# Altium footprint library Soil_Moisture_Sensor.PcbLib: 20 footprints (part 2 of 2)
Each footprint in its own frame and in the unit in brackets; x right, y up, seen from the top. Pads: shape width x height; smd on the part's side, far side on the other; paste and mask are expansions set on the pad; w line width, h text height; cw(c..) or ccw(c..) is an arc to the next point about the centre after c.
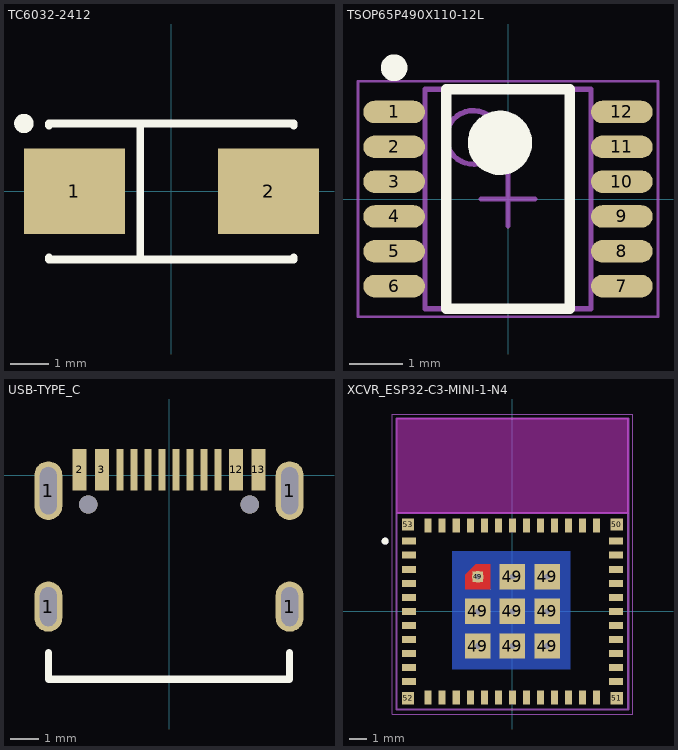
[diagram p1: the footprints below, top view; thin cyan lines are the x and y axes]

## TC6032-2412 [mm] "Capacitor, SM Tantalum; Body 6.0 x 3.2 mm (LxW typ)"
height 3.4
pads (2):
  rect 2.6x2.2 smd: 1(-2.5,0) 2(2.5,0)
Top Overlay:
  circle w0.25: c-3.8,1.75 r0.125
  lines w0.2: -3.15,-1.7 -3.15,-1.75 3.15,-1.75 3.15,-1.7 ; -3.15,1.7 -3.15,1.75 3.15,1.75 3.15,1.7 ; -0.8,-1.75 -0.8,1.75
3D body: height 3, standoff 0, extent -3.048,-1.651 3.175,1.651

## TSOP65P490X110-12L [mm] "TSOP, 12-Leads, Body 4.04x3.00mm, Pitch 0.65mm, IPC High Density"
height 1.1
pads (12):
  oval 1.15x0.42 smd: 1(-2.125,1.625) 2(-2.125,0.975) 3(-2.125,0.325) 4(-2.125,-0.325) 5(-2.125,-0.975) 6(-2.125,-1.625) 7(2.125,-1.625) 8(2.125,-0.975) 9(2.125,-0.325) 10(2.125,0.325) 11(2.125,0.975) 12(2.125,1.625)
Top Overlay:
  circle w0.6: c-0.15,1.05 r0.3
  circle w0.25: c-2.125,2.45 r0.125
  lines w0.2: -1.15,-2.05 1.15,-2.05 1.15,2.05 -1.15,2.05 -1.15,-2.05
Mechanical 13:
  circle w0.1: c-0.65,1.15 r0.5
  lines w0.1: -1.55,-2.05 1.55,-2.05 1.55,2.05 -1.55,2.05 -1.55,-2.05
Mechanical 15:
  lines w0.05: -2.8,-2.2 2.8,-2.2 2.8,2.2 -2.8,2.2 -2.8,-2.2
  lines w0.1: -0.5,0 0.5,0 ; 0,-0.5 0,0.5
3D body: height 1.1, standoff 0.15, extent -1.55,-2.05 1.55,2.05

## USB-TYPE_C [mm]
pads (16):
  oval 1x1.8 hole 0.6 slot 1.4 at 90 deg: 1(-4.32,-4.7) 1(4.32,-4.7)
  oval 1x2.1 hole 0.6 slot 1.7 at 90 deg: 1(-4.32,-0.55) 1(4.32,-0.55)
  rect 0.5x1.5 smd: 2(-3.2,0.2) 3(-2.4,0.2) 12(2.4,0.2) 13(3.2,0.2)
  rect 0.25x1.5 smd: 4(-1.75,0.2) 5(-1.25,0.2) 6(-0.75,0.2) 7(-0.25,0.2) 8(0.25,0.2) 9(0.75,0.2) 10(1.25,0.2) 11(1.75,0.2)
via -2.89,-1.05 diameter 0.65 hole 0.65
via 2.89,-1.05 diameter 0.65 hole 0.65
Top Overlay:
  lines w0.254: -4.32,-6.352 -4.32,-7.3 4.32,-7.3 4.32,-6.352
3D body: height 3.26, standoff 0, extent -4.32,-7.366 4.32,0.127

## XCVR_ESP32-C3-MINI-1-N4 [mm]
height 2.55
pads (61):
  rect 0.8x0.4 smd: 1(-5.9,4) 2(-5.9,3.2) 3(-5.9,2.4) 4(-5.9,1.6) 5(-5.9,0.8) 6(-5.9,0) 7(-5.9,-0.8) 8(-5.9,-1.6) 9(-5.9,-2.4) 10(-5.9,-3.2) 11(-5.9,-4) 25(5.9,-4) 26(5.9,-3.2) 27(5.9,-2.4) 28(5.9,-1.6) 29(5.9,-0.8) 30(5.9,0) 31(5.9,0.8) 32(5.9,1.6) 33(5.9,2.4) 34(5.9,3.2) 35(5.9,4)
  rect 0.4x0.8 smd: 12(-4.8,-4.9) 13(-4,-4.9) 14(-3.2,-4.9) 15(-2.4,-4.9) 16(-1.6,-4.9) 17(-0.8,-4.9) 18(0,-4.9) 19(0.8,-4.9) 20(1.6,-4.9) 21(2.4,-4.9) 22(3.2,-4.9) 23(4,-4.9) 24(4.8,-4.9) 36(4.8,4.9) 37(4,4.9) 38(3.2,4.9) 39(2.4,4.9) 40(1.6,4.9) 41(0.8,4.9) 42(0,4.9) 43(-0.8,4.9) 44(-1.6,4.9) 45(-2.4,4.9) 46(-3.2,4.9) 47(-4,4.9) 48(-4.8,4.9)
  rect 1.45x1.45 smd: 49(-1.975,-1.975) 49(-1.975,0) 49(0,-1.975) 49(0,0) 49(0,1.975) 49(1.975,-1.975) 49(1.975,0) 49(1.975,1.975)
  rect 0.6x0.6 smd paste-1 mask+0: 49(-1.975,1.975)
  rect 0.7x0.7 smd: 50(5.95,4.95) 51(5.95,-4.95) 52(-5.95,-4.95) 53(-5.95,4.95)
via -1.975,-1.975 diameter 0.66 hole 0.33
via 0,-1.975 diameter 0.66 hole 0.33
via 1.975,-1.975 diameter 0.66 hole 0.33
via 1.975,0 diameter 0.66 hole 0.33
via 0,0 diameter 0.66 hole 0.33
via -1.975,0 diameter 0.66 hole 0.33
via -1.975,1.975 diameter 0.66 hole 0.33
via 0,1.975 diameter 0.66 hole 0.33
via 1.975,1.975 diameter 0.66 hole 0.33
Top Layer:
  region: -1.25,1.25 -2.7,1.25 -2.7,2.1 -2.1,2.7 -1.25,2.7
Bottom Layer:
  rectangle: -3.429,-3.302 3.302,3.429
Top Overlay:
  circle w0.2: c-7.25,4 r0.1
Top Paste:
  region: -1.25,1.25 -2.7,1.25 -2.7,2.1 -2.1,2.7 -1.25,2.7
Top Solder:
  region: -1.15,1.15 -2.8,1.15 -2.8,2.14 -2.14,2.8 -1.15,2.8
Bottom Solder:
  rectangle: -3.683,-3.556 3.556,3.683
Keep-Out Layer:
  region: 6.6,5.6 -6.6,5.6 -6.6,11 6.6,11
  region: 6.6,5.6 -6.6,5.6 -6.6,11 6.6,11
Mechanical 13:
  circle w0.2: c-7.25,4 r0.1
  lines w0.127: -6.6,5.62 -6.6,11 ; 6.6,5.62 6.6,11 ; -6.6,5.6 -6.6,11 ; -6.6,5.6 6.6,5.6 ; -6.6,5.6 -6.6,-5.6 6.6,-5.6 6.6,5.6 ; -6.6,11 6.6,11 ; -6.6,11 6.6,11 ; 6.6,5.6 6.6,11
Mechanical 15:
  lines w0.05: -6.85,-5.85 -6.85,11.25 6.85,11.25 6.85,-5.85 -6.85,-5.85